# EAGLE library part C1_GPIO (library odroid-dt)
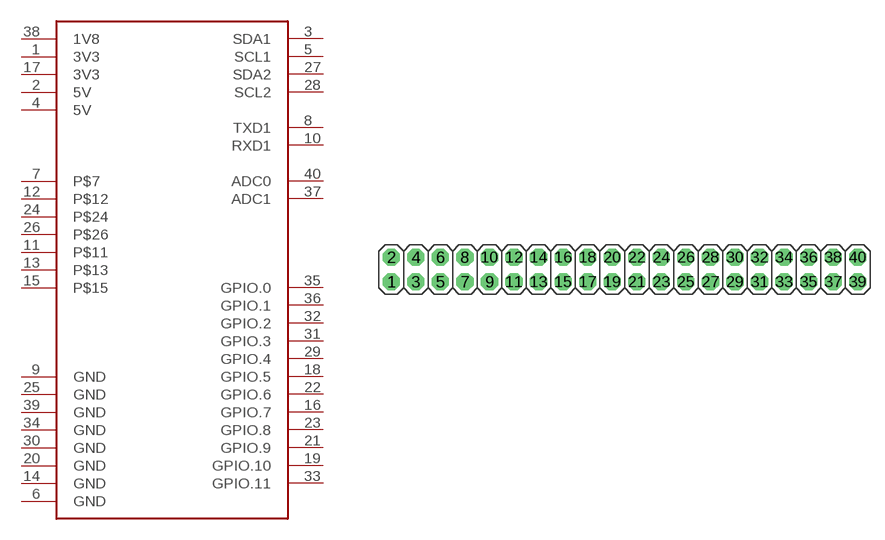
[diagram p0: symbol with the pads of 2X20-BIG; footprint 2X20-BIG]

Designator prefix JP

## C1_GPIO  [2X20-BIG]
1  3V3  nc
2  5V  nc
3  SDA1
4  5V  nc
5  SCL1
6  GND  pwr
7  P$7
8  TXD1
9  GND  pwr
10  RXD1
11  P$11
12  P$12
13  P$13
14  GND  pwr
15  P$15
16  GPIO.7
17  3V3  nc
18  GPIO.5
19  GPIO.10
20  GND  pwr
21  GPIO.9
22  GPIO.6
23  GPIO.8
24  P$24
25  GND  pwr
26  P$26
27  SDA2
28  SCL2
29  GPIO.4
30  GND  pwr
31  GPIO.3
32  GPIO.2
33  GPIO.11
34  GND  pwr
35  GPIO.0
36  GPIO.1
37  ADC1
38  1V8  nc
39  GND  pwr
40  ADC0

## Footprint 2X20-BIG (pad centres in mm)
drill 1.016 pad 1.778 octagon: 1 -24.13,-1.27; 2 -24.13,1.27; 3 -21.59,-1.27; 4 -21.59,1.27; 5 -19.05,-1.27; 6 -19.05,1.27; 7 -16.51,-1.27; 8 -16.51,1.27; 9 -13.97,-1.27; 10 -13.97,1.27; 11 -11.43,-1.27; 12 -11.43,1.27; 13 -8.89,-1.27; 14 -8.89,1.27; 15 -6.35,-1.27; 16 -6.35,1.27; 17 -3.81,-1.27; 18 -3.81,1.27; 19 -1.27,-1.27; 20 -1.27,1.27; 21 1.27,-1.27; 22 1.27,1.27; 23 3.81,-1.27; 24 3.81,1.27; 25 6.35,-1.27; 26 6.35,1.27; 27 8.89,-1.27; 28 8.89,1.27; 29 11.43,-1.27; 30 11.43,1.27; 31 13.97,-1.27; 32 13.97,1.27; 33 16.51,-1.27; 34 16.51,1.27; 35 19.05,-1.27; 36 19.05,1.27; 37 21.59,-1.27; 38 21.59,1.27; 39 24.13,-1.27; 40 24.13,1.27